# Altium schematic symbol library 2450AT18A100E.Schlib: 1 symbol
Pins are listed as number, name and electrical type; pins without a type are passive.

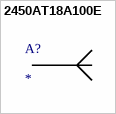
[diagram p0: symbol 2450AT18A100E]

## 2450AT18A100E
designator A?
RF ANT SM CHIP 2.4GHZ
pins: 1